# Altium footprint library kls7_ts6604_5_0_180_b.PcbLib: 1 footprints
Each footprint in its own frame and in the unit in brackets; x right, y up, seen from the top. Pads: shape width x height; smd on the part's side, far side on the other; paste and mask are expansions set on the pad; w line width, h text height; cw(c..) or ccw(c..) is an arc to the next point about the centre after c.
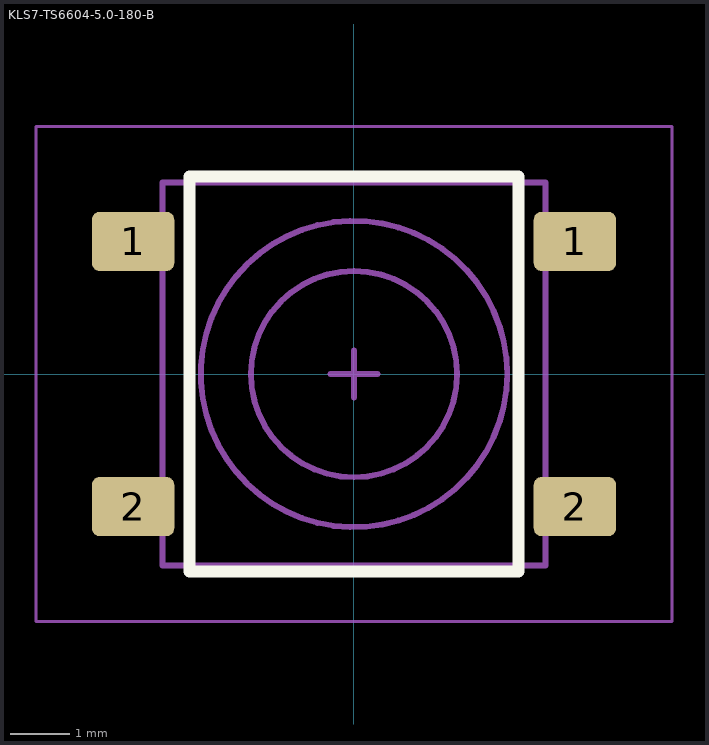
[diagram p0: the footprint, top view; thin cyan lines are the x and y axes]

## KLS7-TS6604-5.0-180-B [mm]
height 5
pads (4):
  rrect25% 1.4x1 smd: 1(-3.75,2.25) 1(3.75,2.25) 2(-3.75,-2.25) 2(3.75,-2.25)
Top Overlay:
  lines w0.2: -2.794,-3.35 2.794,-3.35 2.794,3.35 -2.794,3.35 -2.794,-3.35
Top Comment:
  text ".Comment" at 1,4.4 h1.2
Top Designator:
  text ".Designator" at -0.6,4.4 h1.2
Top Component Outline:
  circle w0.1: c0,-0.002 r1.75
  circle w0.1: c0,0 r2.6
  lines w0.1: -3.253,-2.6 -3.253,-1.9 ; -3.253,1.9 -3.253,2.6 ; -3.25,-2.6 -4,-2.6 -4,-1.9 -3.25,-1.9 ; -3.25,1.9 -4,1.9 -4,2.6 -3.25,2.6 ; 3.25,-2.6 4,-2.6 4,-1.9 3.25,-1.9 ; 3.25,1.9 4,1.9 4,2.6 3.25,2.6 ; 3.253,-2.6 3.253,-1.9 ; 3.253,1.9 3.253,2.6 ; -3.25,-3.25 3.25,-3.25 3.25,3.25 -3.25,3.25 -3.25,-3.25
Top Courtyard (Mech15):
  lines w0.05: -5.4,-4.2 -5.4,4.2 5.4,4.2 5.4,-4.2 -5.4,-4.2
  lines w0.1: -0.4,0 0.4,0 ; 0,-0.4 0,0.4
3D body "TS-1143S-WP.STEP": height 4.3, standoff 0, extent -4,-3.25 4,3.25